# EAGLE library part HEADER_10X2_SMD (library ck)
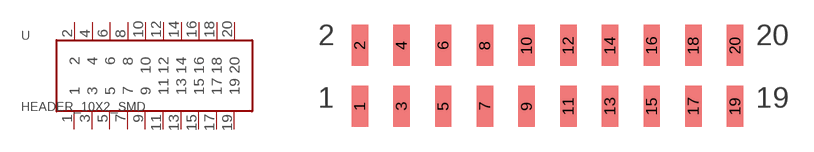
[diagram p10: symbol with the pads of HEADER_10X2_SMD; footprint HEADER_10X2_SMD]

Designator prefix U

## HEADER_10X2_SMD  [HEADER_10X2_SMD]
1  1
2  2
3  3
4  4
5  5
6  6
7  7
8  8
9  9
10  10
11  11
12  12
13  13
14  14
15  15
16  16
17  17
18  18
19  19
20  20

## Footprint HEADER_10X2_SMD (pad centres in mm)
smd 1 x 2.5: 1 0,-3.7; 2 0,0; 3 2.54,-3.7; 4 2.54,0; 5 5.08,-3.7; 6 5.08,0; 7 7.62,-3.7; 8 7.62,0; 9 10.16,-3.7; 10 10.16,0; 11 12.7,-3.7; 12 12.7,0; 13 15.24,-3.7; 14 15.24,0; 15 17.78,-3.7; 16 17.78,0; 17 20.32,-3.7; 18 20.32,0; 19 22.86,-3.7; 20 22.86,0